# Altium footprint library MOV14D561KTR.PcbLib: 1 footprints
Each footprint in its own frame and in the unit in brackets; x right, y up, seen from the top. Pads: shape width x height; smd on the part's side, far side on the other; paste and mask are expansions set on the pad; w line width, h text height; cw(c..) or ccw(c..) is an arc to the next point about the centre after c.
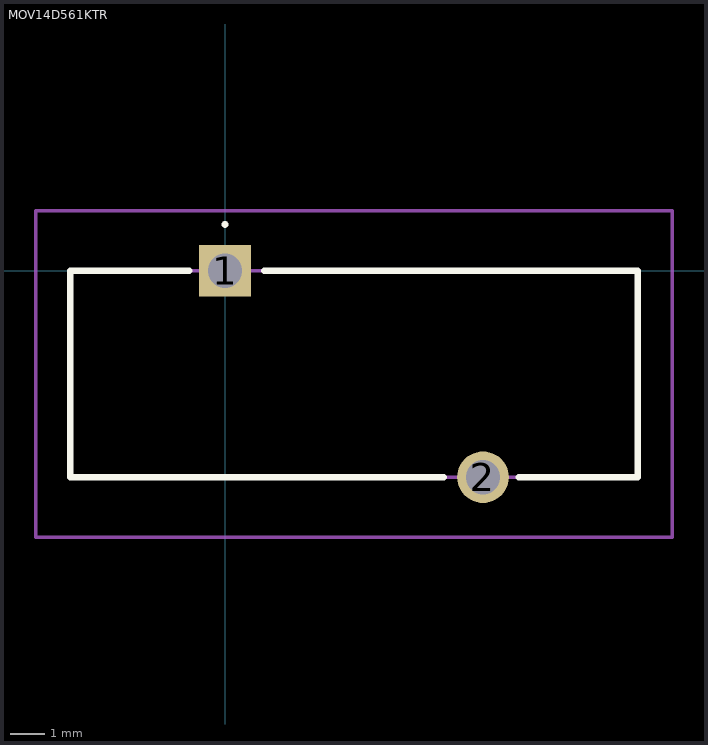
[diagram p0: the footprint, top view; thin cyan lines are the x and y axes]

## MOV14D561KTR [mm]
pads (2):
  rect 1.5x1.5 hole 1: 1(0,0)
  round 1.5 hole 1: 2(7.5,-6)
Top Overlay:
  lines w0.1: 0,1.3 0,1.3 ; 0,1.3 ccw(c0,1.35) 0,1.4 ; 0,1.3 cw(c0,1.35) 0,1.4 ; 0,1.4 0,1.4
  lines w0.2: -1.05,0 -4.5,0 -4.5,-6 6.35,-6 ; 1.15,0 12,0 12,-6 8.55,-6
Mechanical 15:
  lines w0.1: -4.5,-6 12,-6 12,0 -4.5,0 -4.5,-6
Mechanical 20:
  lines w0.1: -5.5,-7.75 13,-7.75 13,1.75 -5.5,1.75 -5.5,-7.75